# EAGLE library part 110IMY70-15-0TZG (library MHR15-TS)
DC/DC CONVERTER 15V 90W
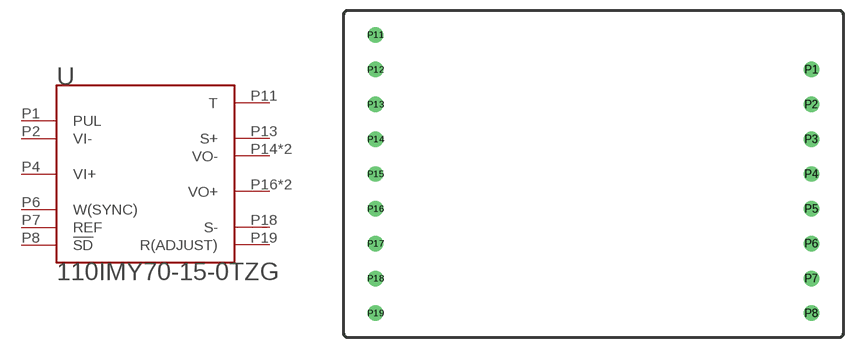
[diagram p0: symbol with the pads of 110IMY70-15-0TZG; footprint 110IMY70-15-0TZG]

Designator prefix -

## 110IMY70-15-0TZG  [110IMY70-15-0TZG]
P1  PUL
P2  VI-
P4  VI+
P6  W(SYNC)
P7  REF
P8  !SD
P11  T
P13  S+
P14  VO-
P15  VO-
P16  VO+
P17  VO+
P18  S-
P19  R(ADJUST)

## Footprint 110IMY70-15-0TZG (pad centres in mm)
drill 1.5: P1 31.75,15.24; P2 31.75,10.16; P3 31.75,5.08; P4 31.75,0; P5 31.75,-5.08; P6 31.75,-10.16; P7 31.75,-15.24; P8 31.75,-20.32; P11 -31.75,20.32; P12 -31.75,15.24; P13 -31.75,10.16; P14 -31.75,5.08; P15 -31.75,0; P16 -31.75,-5.08; P17 -31.75,-10.16; P18 -31.75,-15.24; P19 -31.75,-20.32